# Altium footprint library Full_lib.PcbLib: 247 footprints (part 16 of 16)
Each footprint in its own frame and in the unit in brackets; x right, y up, seen from the top. Pads: shape width x height; smd on the part's side, far side on the other; paste and mask are expansions set on the pad; w line width, h text height; cw(c..) or ccw(c..) is an arc to the next point about the centre after c.
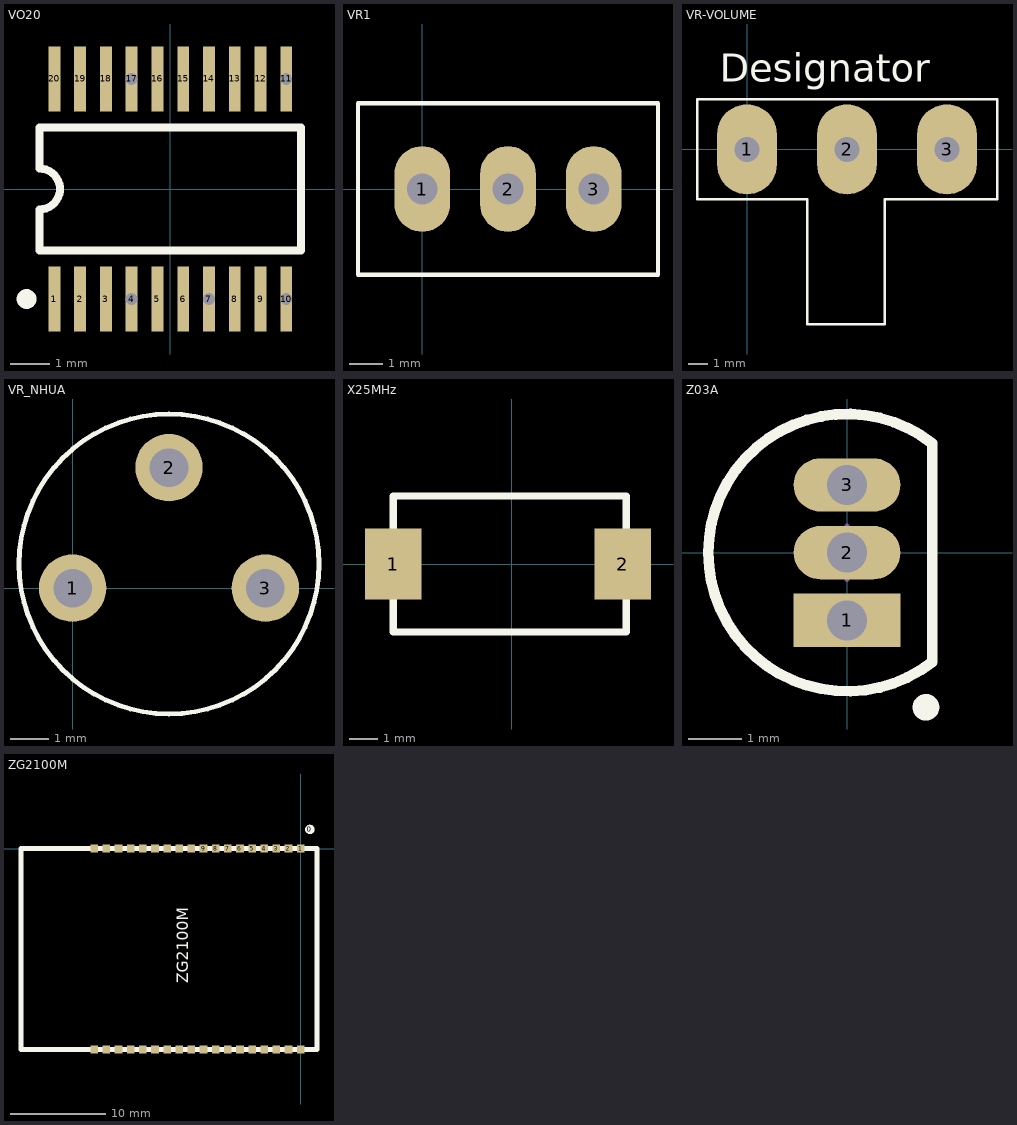
[diagram p15: the footprints below, top view; thin cyan lines are the x and y axes]

## VO20 [mm] "20-Pin Thin Small-Outline Package (VO20)"
height 1.2
pads (20):
  rect 0.3x1.65 smd: 1(-2.925,-2.775) 2(-2.275,-2.775) 3(-1.625,-2.775) 5(-0.325,-2.775) 6(0.325,-2.775) 8(1.625,-2.775) 9(2.275,-2.775) 12(2.275,2.775) 13(1.625,2.775) 14(0.975,2.775) 15(0.325,2.775) 16(-0.325,2.775) 18(-1.625,2.775) 19(-2.275,2.775) 20(-2.925,2.775)
  rect 0.3x1.65 hole 0.3: 4(-0.975,-2.775) 7(0.975,-2.775) 10(2.925,-2.775) 11(2.925,2.775) 17(-0.975,2.775)
Top Overlay:
  circle w0.25: c-3.625,-2.775 r0.125
  lines w0.2: -3.3,-1.55 -3.3,-0.517 ccw(c-3.3,0) -3.3,0.517 -3.3,1.55 3.3,1.55 3.3,-1.55 -3.3,-1.55

## VR1 [mil]
pads (3):
  oval 65x100 hole 36: 1(0,0) 2(100,0) 3(200,0)
Top Overlay:
  lines w5: -75,-100 275,-100 275,100 -75,100 -75,-100

## VR-VOLUME [mil]
pads (3):
  oval 120x180 hole 50: 1(0,0) 2(200,0) 3(400,0)
Top Overlay:
  lines w5: -100,-100 120,-100 120,-350 275,-350 275,-100 500,-100 500,100 -100,100 -100,-100
  text "Designator" at -55,135 h56.25

## VR_NHUA [mil]
pads (3):
  round 70 hole 40: 1(0,0) 2(100,125) 3(200,0)
Top Overlay:
  circle w5: c100,25 r155.56

## X25MHz [mm]
pads (2):
  rect 2x2.5 smd: 1(-4.191,0) 2(3.937,0)
Top Overlay:
  lines w0.254: -4.191,-2.413 -4.191,2.413 4.064,2.413 4.064,-2.413 -4.191,-2.413

## Z03A [mm] "TO, Flat Index; 3 In-Line, Axial Leads; Body Dia. 5mm; Leads 0.55 x 0.50 mm (max)"
height 5.2
pads (3):
  rect 2x1 hole 0.75: 1(0,-1.27)
  oval 2x1 hole 0.75: 2(0,0) 3(0,1.27)
Top Overlay:
  circle w0.25: c1.48,-2.9 r0.125
  lines w0.2: 1.601,-2.049 cw(c0,0) 1.601,2.049 1.6,-2.049
Mechanical 13:
  lines w0.1: 1.601,-2.049 cw(c0,0) 1.601,2.049 1.6,-2.049
Mechanical 15:
  lines w0.1: -0.5,0 0.5,0 ; 0,-0.5 0,0.5
3D body: height 5.2, standoff 0, extent -2.612,-2.612 1.6,2.612

## ZG2100M [mm] "WIFI module"
height 5
pads (41):
  round 1 on Top Overlay: 0(0.965,2.007)
  rect 0.8x0.85 smd: 1(0,0) 2(-1.27,0) 3(-2.54,0) 4(-3.81,0) 5(-5.08,0) 6(-6.35,0) 7(-7.62,0) 8(-8.89,0) 9(-10.16,0) 10(-11.43,0) 11(-12.7,0) 12(-13.97,0) 13(-15.24,0) 14(-16.51,0) 15(-17.78,0) 16(-19.05,0) 17(-20.32,0) 18(-21.59,0) 19(-21.59,-21) 20(-20.32,-21) 21(-19.05,-21) 22(-17.78,-21) 23(-16.51,-21) 24(-15.24,-21) 25(-13.97,-21) 26(-12.7,-21) 27(-11.43,-21) 28(-10.16,-21) 29(-8.89,-21) 30(-7.62,-21) 31(-6.35,-21) 32(-5.08,-21) 33(-3.81,-21) 34(-2.54,-21) 35(-1.27,-21) 36(0,-21)
  round 0.381 on Top Overlay: 37(1.73,0) 38(1.73,-21) 39(-29.27,0) 40(-29.27,-21)
Top Overlay:
  lines w0.508: -29.261,-21.006 1.727,-21.006 1.727,0 -29.261,0 -29.261,-21.006
  text "ZG2100M" at -11.354,-14.097 h2